# EAGLE library part 6560 (library Custom)
MOS 6560 VIC
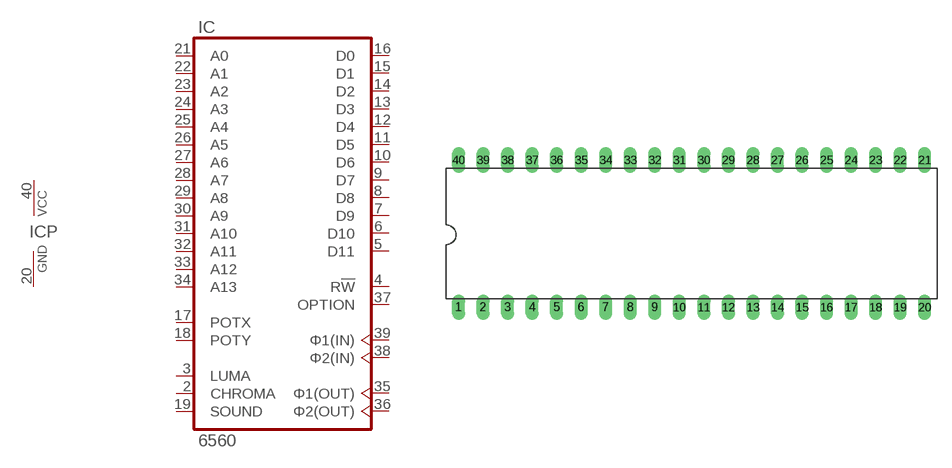
[diagram p3: symbol with the pads of DIL40; footprint DIL40]

Designator prefix IC; gates A=6560 P=PWRN

## 6560  [DIL40]
2  A:CHROMA  out
3  A:LUMA  in
4  A:R!W  out
5  A:D11
6  A:D10
7  A:D9
8  A:D8
9  A:D7
10  A:D6
11  A:D5
12  A:D4
13  A:D3
14  A:D2
15  A:D1
16  A:D0
17  A:POTX  in
18  A:POTY  in
19  A:SOUND  in
20  P:GND  pwr
21  A:A0  out
22  A:A1  out
23  A:A2  out
24  A:A3  out
25  A:A4  out
26  A:A5  out
27  A:A6  out
28  A:A7  out
29  A:A8  out
30  A:A9  out
31  A:A10  out
32  A:A11  out
33  A:A12  out
34  A:A13  out
35  A:Φ1(OUT)  out
36  A:Φ2(OUT)  out
37  A:OPTION  in
38  A:Φ2(IN)  in
39  A:Φ1(IN)  in
40  P:VCC  pwr

## Footprint DIL40 (pad centres in mm)
drill 0.813 long: 1 -24.13,-7.62; 2 -21.59,-7.62; 3 -19.05,-7.62; 4 -16.51,-7.62; 5 -13.97,-7.62; 6 -11.43,-7.62; 7 -8.89,-7.62; 8 -6.35,-7.62; 9 -3.81,-7.62; 10 -1.27,-7.62; 11 1.27,-7.62; 12 3.81,-7.62; 13 6.35,-7.62; 14 8.89,-7.62; 15 11.43,-7.62; 16 13.97,-7.62; 17 16.51,-7.62; 18 19.05,-7.62; 19 21.59,-7.62; 20 24.13,-7.62; 21 24.13,7.62; 22 21.59,7.62; 23 19.05,7.62; 24 16.51,7.62; 25 13.97,7.62; 26 11.43,7.62; 27 8.89,7.62; 28 6.35,7.62; 29 3.81,7.62; 30 1.27,7.62; 31 -1.27,7.62; 32 -3.81,7.62; 33 -6.35,7.62; 34 -8.89,7.62; 35 -11.43,7.62; 36 -13.97,7.62; 37 -16.51,7.62; 38 -19.05,7.62; 39 -21.59,7.62; 40 -24.13,7.62